# Altium integrated library TE_Connectivity.IntLib: 5 symbols
Pins are listed as number, name and electrical type; pins without a type are passive.

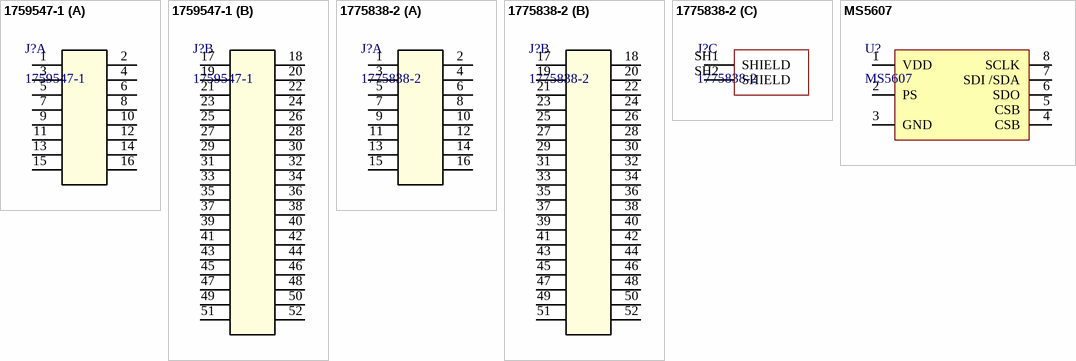
[diagram p0: symbols 1759547-1 to MS5607]

## 1759547-1
designator J?
Mini PCI Express, Mini PCI Express & mSATA, Board-to-Board, 52 Position, .031 in [.8 mm] Centerline, Stack Height 7 mm [.276 in], Gold Flash, Matte; Mfr_Name: TE Connectivity; Copyright: Copyright (C) 2022 Ultra Librarian. All rights reserved.; Manufacturer_Part_Number: 1759547-1; RefDes: RefDes; Type: DEV; ComponentLink1Description: Darasheet; ComponentLink1URL: https://www.te.com.cn/commerce/DocumentDelivery/DDEController?Action=showdoc&DocId=Customer+Drawing%7F1759547%7FJ%7Fpdf%7FEnglish%7FENG_CD_1759547_J.pdf%7F1759547-1; Supplier 1: Arrow Electronics; Supplier Part Number 1: 1759547-1
footprint CONN52_1759547-1_TEC
part A pins: 1, 2, 3, 4, 5, 6, 7, 8, 9, 10, 11, 12, 13, 14, 15, 16
part B pins: 17, 18, 19, 20, 21, 22, 23, 24, 25, 26, 27, 28, 29, 30, 31, 32, 33, 34, 35, 36, 37, 38, 39, 40, 41, 42, 43, 44, 45, 46, 47, 48, 49, 50, 51, 52

## 1775838-2
designator J?
Conn Mini PCI Express Card Edge SKT 52 POS Solder RA SMD T/R; Product_Type: Connector; Centerline_Pitch: .8 mm[.031 in]; MF: TE Connectivity; Number_of_Positions: 52; Availability: Unavailable; MP: 1775838-2; Value: *; Package: None; SnapEDA_Link: https://www.snapeda.com/parts/1775838-2/TE%20Connectivity%20AMP%20Connectors/view-part/804031/?ref=snap; TE_purchase_URL: https://www.te.com/usa-en/product-1775838-2.html?te_bu=Cor&te_type=disp&te_campaign=seda_glo_cor-seda-global-disp-prtnr-fy19-seda-model-bom-cta_sma-317_1&elqCampaignId=32493; EU_RoHS_Compliance: Compliant; Price: None
footprint 17758382
part A pins: 1, 2, 3, 4, 5, 6, 7, 8, 9, 10, 11, 12, 13, 14, 15, 16
part B pins: 17, 18, 19, 20, 21, 22, 23, 24, 25, 26, 27, 28, 29, 30, 31, 32, 33, 34, 35, 36, 37, 38, 39, 40, 41, 42, 43, 44, 45, 46, 47, 48, 49, 50, 51, 52
part C pins: SH1 SHIELD, SH2 SHIELD

## MS5607
designator U?
Barometric Pressure Sensor, with stainless steel cap; ComponentLink1Description: Darasheet; ComponentLink1URL: https://www.te.com.cn/commerce/DocumentDelivery/DDEController?Action=showdoc&DocId=Data+Sheet%7FMS5607-02BA03%7FB3%7Fpdf%7FEnglish%7FENG_DS_MS5607-02BA03_B3.pdf%7FMS560702BA03-50
footprint MS5607
pins: 1 VDD, 2 PS, 3 GND, 4 CSB, 5 CSB, 6 SDO, 7 SDI /SDA, 8 SCLK


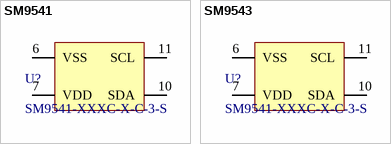
[diagram p1: symbols SM9541 to SM9543]

## SM9541
designator U?, comment SM9541-XXXC-X-C-3-S
footprint SM9541_L (10.3*10.3*2.6mm（长宽高）)
footprint SM9541_M (10.3*10.3*2.6mm（长宽高）)
footprint SM9541_N (10.3*10.3*2.6mm（长宽高）)
pins: 6 VSS, 7 VDD, 10 SDA, 11 SCL

## SM9543
designator U?, comment SM9541-XXXC-X-C-3-S
footprint SM9541_L (10.3*10.3*2.6mm（长宽高）)
footprint SM9541_M (10.3*10.3*2.6mm（长宽高）)
footprint SM9541_N (10.3*10.3*2.6mm（长宽高）)
pins: 6 VSS, 7 VDD, 10 SDA, 11 SCL